# EAGLE library part RT8293A (library kitt.ic)
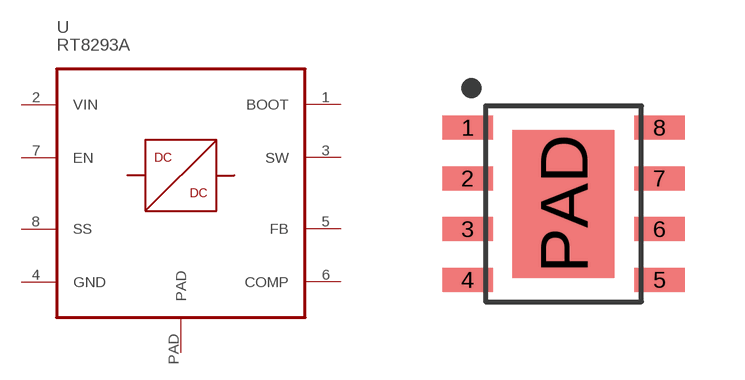
[diagram p6: symbol with the pads of SOIC-8-PAD; footprint SOIC-8-PAD]

Designator prefix -

## RT8293A  [SOIC-8-PAD]
1  BOOT
2  VIN
3  SW
4  GND
5  FB
6  COMP
7  EN
8  SS
PAD  PAD

## Footprint SOIC-8-PAD (pad centres in mm)
smd 1.27 x 0.6: 1 -2.4,1.905; 2 -2.4,0.635; 3 -2.4,-0.635; 4 -2.4,-1.905; 5 2.4,-1.905; 6 2.4,-0.635; 7 2.4,0.635; 8 2.4,1.905
smd 2.55 x 3.7: PAD 0,0